# Altium schematic symbol library TRS_MOSFET_P.SchLib: 1 symbol
Pins are listed as number, name and electrical type; pins without a type are passive.

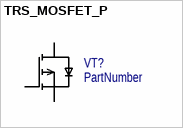
[diagram p0: symbol TRS_MOSFET_P]

## TRS_MOSFET_P
designator VT?  (value not drawn)
P-канальный MOSFET (дезигнаторы буквенные G/S/D); PartNumber: PartNumber
pins: D, G, S